# EAGLE library part L6226 (library Railstars)
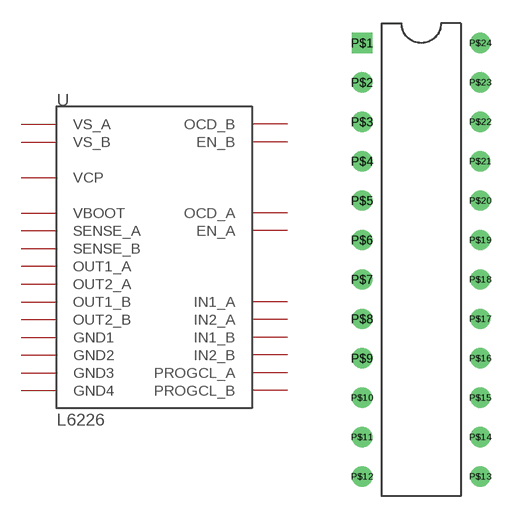
[diagram p1: symbol with the pads of PDIP-24; footprint PDIP-24]

Designator prefix -

## L6226PDIP  [PDIP-24]
P$1  IN1_A
P$2  IN2_A
P$3  SENSE_A
P$4  OCD_A
P$5  OUT1_A
P$6  GND1
P$7  GND2
P$8  OUT1_B
P$9  OCD_B
P$10  SENSE_B
P$11  IN1_B
P$12  IN2_B
P$13  PROGCL_B
P$14  EN_B
P$15  VBOOT
P$16  OUT2_B
P$17  VS_B
P$18  GND3
P$19  GND4
P$20  VS_A
P$21  OUT2_A
P$22  VCP
P$23  EN_A
P$24  PROGCL_A

## Footprint PDIP-24 (pad centres in mm)
drill 0.8 square: P$1 -3.81,13.97
drill 0.8: P$2 -3.81,11.43; P$3 -3.81,8.89; P$4 -3.81,6.35; P$5 -3.81,3.81; P$6 -3.81,1.27; P$7 -3.81,-1.27; P$8 -3.81,-3.81; P$9 -3.81,-6.35; P$10 -3.81,-8.89; P$11 -3.81,-11.43; P$12 -3.81,-13.97; P$13 3.81,-13.97; P$14 3.81,-11.43; P$15 3.81,-8.89; P$16 3.81,-6.35; P$17 3.81,-3.81; P$18 3.81,-1.27; P$19 3.81,1.27; P$20 3.81,3.81; P$21 3.81,6.35; P$22 3.81,8.89; P$23 3.81,11.43; P$24 3.81,13.97